# Altium footprint library crystal.PcbLib: 1 footprints
Each footprint in its own frame and in the unit in brackets; x right, y up, seen from the top. Pads: shape width x height; smd on the part's side, far side on the other; paste and mask are expansions set on the pad; w line width, h text height; cw(c..) or ccw(c..) is an arc to the next point about the centre after c.
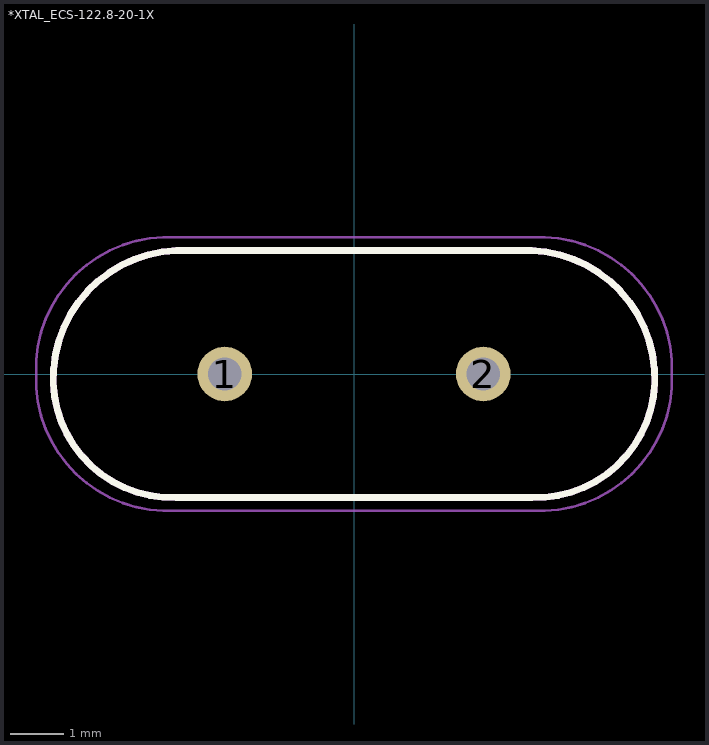
[diagram p0: the footprint, top view; thin cyan lines are the x and y axes]

## *XTAL_ECS-122.8-20-1X [mm]
pads (2):
  round 1.03 hole 0.63: 1(-2.44,0) 2(2.44,0)
Top Overlay:
  lines w0.127: -5.675,-0.169 cw(c-3.26,-0.085) -3.344,2.33 ; -5.675,-0.168 ccw(c-3.435,-0.09) -3.357,-2.33 ; -3.35,-2.33 3.35,-2.33 ; -3.35,2.33 3.35,2.33 ; 3.344,2.33 cw(c3.26,-0.085) 5.675,-0.169 ; 3.357,-2.33 ccw(c3.435,-0.09) 5.675,-0.168
Mechanical 4:
  lines w0.127: -5.675,-0.169 cw(c-3.26,-0.085) -3.344,2.33 ccw(c-3.26,-0.085) -5.675,-0.169 ; -5.675,-0.168 ccw(c-3.435,-0.09) -3.357,-2.33 cw(c-3.435,-0.09) -5.675,-0.168 ; -3.35,-2.33 3.35,-2.33 -3.35,-2.33 ; -3.35,2.33 3.35,2.33 -3.35,2.33 ; 3.344,2.33 cw(c3.26,-0.085) 5.675,-0.169 ccw(c3.26,-0.085) 3.344,2.33 ; 3.357,-2.33 ccw(c3.435,-0.09) 5.675,-0.168 cw(c3.435,-0.09) 3.357,-2.33
Mechanical 16:
  lines w0.05: -5.999,-0.264 ccw(c-3.51,-0.09) -3.336,-2.579 ; -6,-0.25 -6,0.25 ; -5.999,0.264 cw(c-3.51,0.09) -3.336,2.579 ; -3.35,-2.58 3.35,-2.58 ; -3.35,2.58 3.35,2.58 ; 3.336,-2.579 ccw(c3.51,-0.09) 5.999,-0.264 ; 3.336,2.579 cw(c3.51,0.09) 5.999,0.264 ; 6,-0.25 6,0.25